# EAGLE library part H2_SENSOR (library Shell2013 (1))
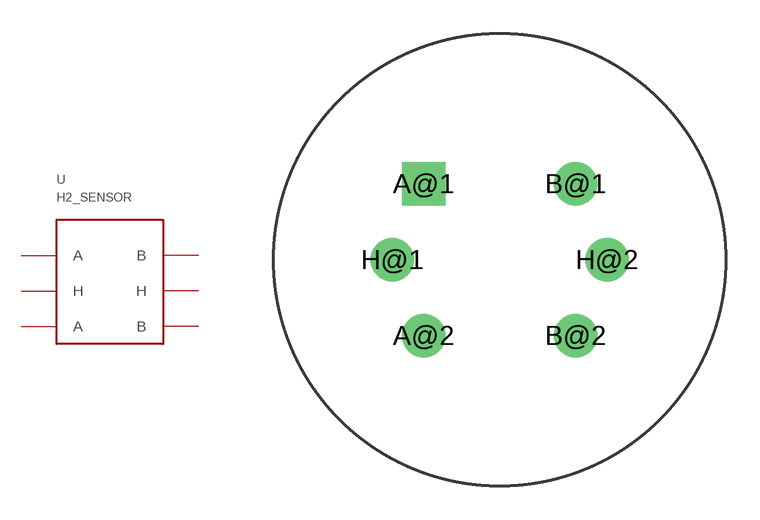
[diagram p3: symbol with the pads of H2_SENSOR; footprint H2_SENSOR]

Designator prefix -

## H2_SENSOR  [H2_SENSOR]
A@1  A
A@2  A
B@1  B
B@2  B
H@1  H
H@2  H

## Footprint H2_SENSOR (pad centres in mm)
drill 1.2 pad 1.93 square: A@1 -3.36,3.36
drill 1.2 pad 1.93: A@2 -3.36,-3.36; B@1 3.36,3.36; B@2 3.36,-3.36; H@1 -4.75,0; H@2 4.75,0